# Altium schematic symbol library Diodes.SchLib: 14 symbols
Pins are listed as number, name and electrical type; pins without a type are passive.

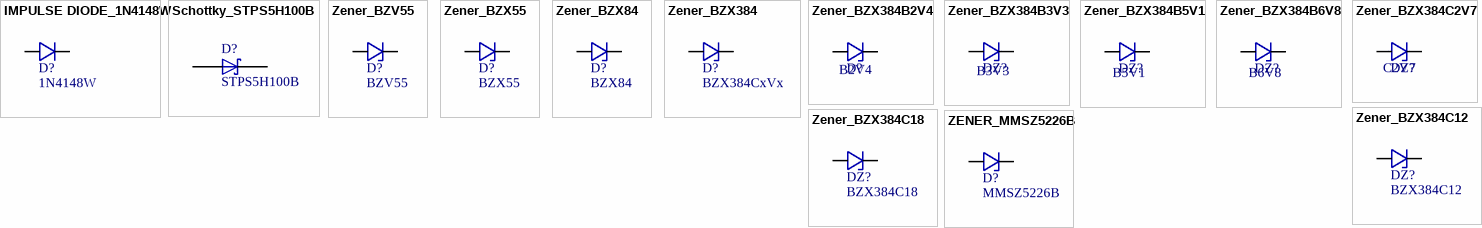
[diagram p0: symbols IMPULSE DIODE_1N4148W to ZENER_MMSZ5226B]

## IMPULSE DIODE_1N4148W
designator D?, comment 1N4148W
Диод 150мА 100В [SOD-123]
footprint SOD_123 (SOD, 2-Leads, Body 1.55x3.70mm, IPC Medium Density)
pins: A 1, C 2

## Schottky_STPS5H100B
designator D?, comment STPS5H100B
DIODE SCHOTTKY 5A 100V
footprint D-PAK
pins: 2 A, 3 K

## Zener_BZV55
designator D?, comment BZV55
footprint SOD_80_MINIMELF
pins: A 1, C 2

## Zener_BZX55
designator D?, comment BZX55
footprint DIODE_DO-35 (Diode, Axial; Body 3.8 x 1.9 mm (LxDia. max), Lead Dia. 0.53 mm (max))
pins: A, C

## Zener_BZX84
designator D?, comment BZX84
footprint SOT_23 (SOT-23; 3 Leads; Body 3.0 x 2.5 mm, inc. leads (LxW max))
pins: 1, 3

## Zener_BZX384
designator D?, comment BZX384CxVx
footprint SOD_323 (SC-76)
pins: A 1, C 2

## Zener_BZX384B2V4
designator D?, comment value B2V4  (hidden comment: BZX384B2V4)
Price, $: 0.3; HelpURL: L:\Dev\Техническая документация\Стабилитроны\BZX384_series_Vishay.pdf
footprint SOD_323 (SC-76)
pins: A 1, C 2

## Zener_BZX384B3V3
designator DZ?, comment value B3V3  (hidden comment: BZX384B3V3)
Price, $: 0.3; HelpURL: L:\Dev\Техническая документация\Стабилитроны\BZX384_series_Vishay.pdf
footprint SOD_323 (SC-76)
pins: A 1, C 2

## Zener_BZX384B5V1
designator DZ?, comment value B5V1  (hidden comment: BZX384B5V1)
Price, $: 0.3; HelpURL: L:\Dev\Техническая документация\Стабилитроны\BZX384_series_Vishay.pdf
footprint SOD_323 (SC-76)
pins: A 1, C 2

## Zener_BZX384B6V8
designator DZ?, comment value B6V8  (hidden comment: BZX384B6V8)
Price, $: 0.3; HelpURL: L:\Dev\Техническая документация\Стабилитроны\BZX384_series_Vishay.pdf
footprint SOD_323 (SC-76)
pins: A 1, C 2

## Zener_BZX384C2V7
designator DZ?, comment value C2V7  (hidden comment: BZX384C2V7)
Price, $: 0.3; HelpURL: L:\Dev\Техническая документация\Стабилитроны\BZX384_series_Vishay.pdf
footprint SOD_323 (SC-76)
pins: A 1, C 2

## Zener_BZX384C12
designator DZ?, comment BZX384C12
HelpURL: L:\Dev\Техническая документация\Стабилитроны\BZX384_series_Vishay.pdf
footprint SOD_323 (SC-76)
pins: A 1, C 2

## Zener_BZX384C18
designator DZ?, comment BZX384C18
HelpURL: L:\Dev\Техническая документация\Стабилитроны\BZX384_series_Vishay.pdf
footprint SOD_323 (SC-76)
pins: A 1, C 2

## ZENER_MMSZ5226B
designator D?, comment MMSZ5226B
Стабилитрон 3.3В 0.5Вт [SOD-123]
footprint SOD_123 (SOD, 2-Leads, Body 1.55x3.70mm, IPC Medium Density)
pins: A 1, C 2